# Altium schematic symbol library C2012X5R1H335K125AB.SchLib: 1 symbol
Pins are listed as number, name and electrical type; pins without a type are passive.

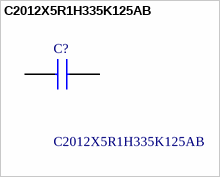
[diagram p0: symbol C2012X5R1H335K125AB]

## C2012X5R1H335K125AB
designator C?
TDK 0805 C 3.3uF Ceramic Multilayer Capacitor, 50 V dc, +85C, X5R Dielectric, +/-10%; Geometry.Height: 1.45mm; Manufacturer_Name: TDK; Manufacturer_Part_Number: C2012X5R1H335K125AB; Mouser Part Number: 810-C2012X5R1H335K; Mouser Price/Stock: https://www.mouser.co.uk/ProductDetail/TDK/C2012X5R1H335K125AB?qs=LcTL%2F5vFEzFqsg2k63py9g%3D%3D; Arrow Part Number: C2012X5R1H335K125AB; Arrow Price/Stock: https://www.arrow.com/en/products/c2012x5r1h335k125ab/tdk?region=nac; Datasheet Link: https://product.tdk.com/info/en/catalog/datasheets/mlcc_commercial_midvoltage_en.pdf
footprint CAPC2012X145N
pins: 1, 2